# EAGLE library part DRV8833PWP (library Romibo)
Dual H-Bridge Motor Driver, 1.5A RMS, 2.0A Peak, 2.7-10.8V Supply
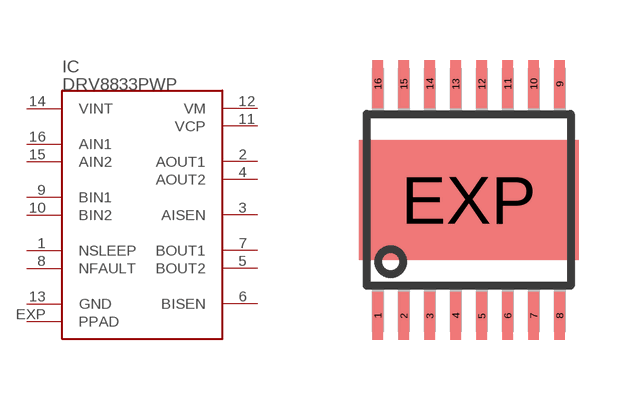
[diagram p0: symbol with the pads of HTSSOPPWP16; footprint HTSSOPPWP16]

Designator prefix IC

## DRV8833PWP  [HTSSOPPWP16]
1  NSLEEP  in
2  AOUT1  out
3  AISEN  out
4  AOUT2  out
5  BOUT2  out
6  BISEN  out
7  BOUT1  out
8  NFAULT  oc
9  BIN1  in
10  BIN2  in
11  VCP  in
12  VM  in
13  GND  in
14  VINT  in
15  AIN2  in
16  AIN1  in
EXP  PPAD  in

## Footprint HTSSOPPWP16 (pad centres in mm)
Modified from the footprint in the Texas library, which assumed the corner pins were connected with the thermal pad.
smd 0.27 x 1.2: 1 -2.275,-2.9; 2 -1.625,-2.9; 3 -0.975,-2.9; 4 -0.325,-2.9; 5 0.325,-2.9; 6 0.975,-2.9; 7 1.625,-2.9; 8 2.275,-2.9; 9 2.275,2.9; 10 1.625,2.9; 11 0.975,2.9; 12 0.325,2.9; 13 -0.325,2.9; 14 -0.975,2.9; 15 -1.625,2.9; 16 -2.275,2.9
smd 5.5 x 3: EXP 0,0